# Altium footprint library WL-SMRD.PcbLib: 2 footprints
Each footprint in its own frame and in the unit in brackets; x right, y up, seen from the top. Pads: shape width x height; smd on the part's side, far side on the other; paste and mask are expansions set on the pad; w line width, h text height; cw(c..) or ccw(c..) is an arc to the next point about the centre after c.
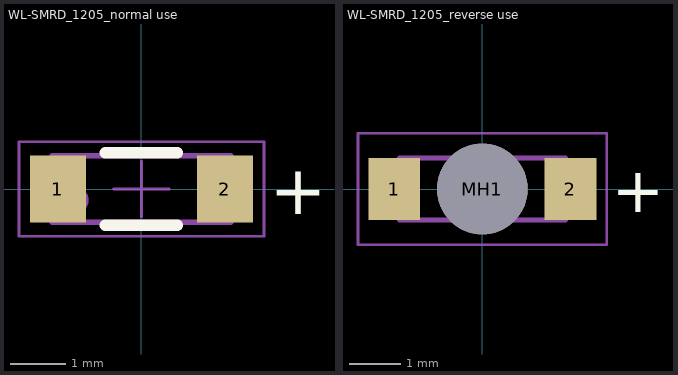
[diagram p0: the footprints below, top view; thin cyan lines are the x and y axes]

## WL-SMRD_1205_normal use [mm] "SMD Mono-color  Reverse mount Diffused, body 3.2x1.2mm"
height 1.2
pads (2):
  rect 1x1.2 smd: 1(-1.5,0) 2(1.5,0)
Top Overlay:
  lines w0.2: -0.65,-0.65 0.65,-0.65 ; -0.65,0.65 0.65,0.65
  text "+" at 2.3,-0.45 h0.89
Top Designator:
  text ".Designator" at -3.499,-0.233 h0.7
Top Component Outline:
  circle w0.1: c-1.2,-0.2 r0.2
  lines w0.1: -1.6,-0.6 1.6,-0.6 1.6,0.6 -1.6,0.6 -1.6,-0.6
Top Courtyard:
  lines w0.05: -0.5,0 0.5,0 ; 0,-0.5 0,0.5 ; -2.2,-0.85 2.2,-0.85 2.2,0.85 -2.2,0.85 -2.2,-0.85
3D body "STEP-WL-SMRD-1205-rev1.stp": height 1.1, standoff 0, extent -1.6,-0.6 1.6,0.6

## WL-SMRD_1205_reverse use [mm] "SMD Mono-color  Reverse mount Diffused, body 3.2x1.2mm"
height 0.28
pads (3):
  rect 1x1.2 smd: 1(-1.7,0) 2(1.7,0)
  round 1.75 hole 1.75 unplated: MH1(0,0)
Top Overlay:
  text "+" at 2.5,-0.45 h0.89
Top Designator:
  text ".Designator" at -3.499,-0.233 h0.7
Top Component Outline:
  region: 0.4,0.6 0.4,-0.6 0.1,-0.6 0.1,-0.15 -0.2,-0.15 -0.2,0.15 0.1,0.15 0.1,0.6
  lines w0.1: -1.6,-0.6 1.6,-0.6 1.6,0.6 -1.6,0.6 -1.6,-0.6
Top Courtyard:
  lines w0.05: -0.5,0 0.5,0 ; 0,-0.5 0,0.5 ; -2.4,-1.075 -2.4,1.075 2.4,1.075 2.4,-1.075 -2.4,-1.075
3D body "STEP-WL-SMRD-1205-rev1.stp": height 0.28, standoff -0.82, extent -1.6,-0.6 1.6,0.6